# Altium footprint library MyLib.PcbLib: 2 footprints
Each footprint in its own frame and in the unit in brackets; x right, y up, seen from the top. Pads: shape width x height; smd on the part's side, far side on the other; paste and mask are expansions set on the pad; w line width, h text height; cw(c..) or ccw(c..) is an arc to the next point about the centre after c.
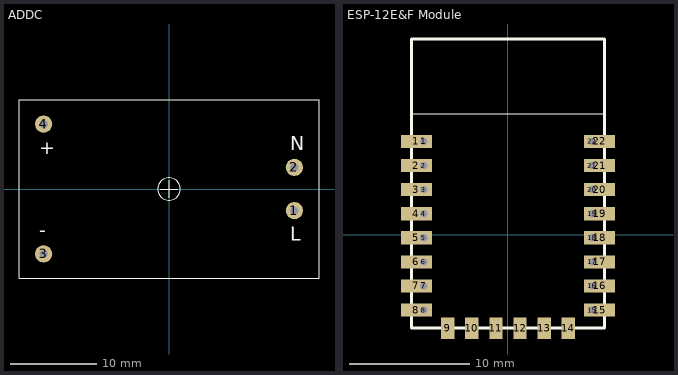
[diagram p0: the footprints below, top view; thin cyan lines are the x and y axes]

## ADDC [mm]
pads (4):
  round 2 hole 1: 1(14.5,-2.5) 2(14.5,2.5) 3(-14.5,-7.5) 4(-14.5,7.5)
Top Overlay:
  circle w0.1: c0,0 r1.3
  lines w0.1: -1,0 1,0 ; 0,-1 0,1 ; -17.35,-10.3 -17.35,10.3 17.35,10.3 17.35,-10.3 -17.35,-10.3
  text "L" at 14,-6 h1.6
  text "N" at 14,4.5 h1.6
  text "-" at -15,-5.5 h1.6
  text "+" at -15,4 h1.6
3D body: height 15.5, standoff -0.1, extent -17.35,-10.3 17.35,10.3

## ESP-12E&F Module [mm]
pads (38):
  rect 2.6x1.1 smd: 1(-7.6,7.75) 2(-7.6,5.75) 3(-7.6,3.75) 4(-7.6,1.75) 5(-7.6,-0.25) 6(-7.6,-2.25) 7(-7.6,-4.25) 8(-7.6,-6.25) 15(7.6,-6.25) 16(7.6,-4.25) 17(7.6,-2.25) 18(7.6,-0.25) 19(7.6,1.75) 20(7.6,3.75) 21(7.6,5.75) 22(7.6,7.75)
  rect 1x1 hole 0.6: 1(-7,7.75) 7(-7,-4.25)
  rect 0.762x1 / inner rect 0.762x1 / far side rect 1x1 hole 0.6: 2(-7,5.75) 3(-7,3.75) 4(-7,1.75) 5(-7,-0.25) 6(-7,-2.25) 8(-7,-6.25) 15(7,-6.25) 16(7,-4.25) 17(7,-2.25) 18(7,-0.25) 19(7,1.75) 20(7,3.75) 21(7,5.75) 22(7,7.75)
  rect 1.1x1.8 smd: 9(-5,-7.75) 10(-3,-7.75) 11(-1,-7.75) 12(1,-7.75) 13(3,-7.75) 14(5,-7.75)
Top Overlay:
  lines w0.1: -8,10.05 8,10.05
  lines w0.254: -8,-7.75 8,-7.75 8,16.25 -8,16.25 -8,-7.75